# Altium footprint library ControlCircuit_PCB_Library_V1_0.PcbLib: 207 footprints (part 11 of 13)
Each footprint in its own frame and in the unit in brackets; x right, y up, seen from the top. Pads: shape width x height; smd on the part's side, far side on the other; paste and mask are expansions set on the pad; w line width, h text height; cw(c..) or ccw(c..) is an arc to the next point about the centre after c.
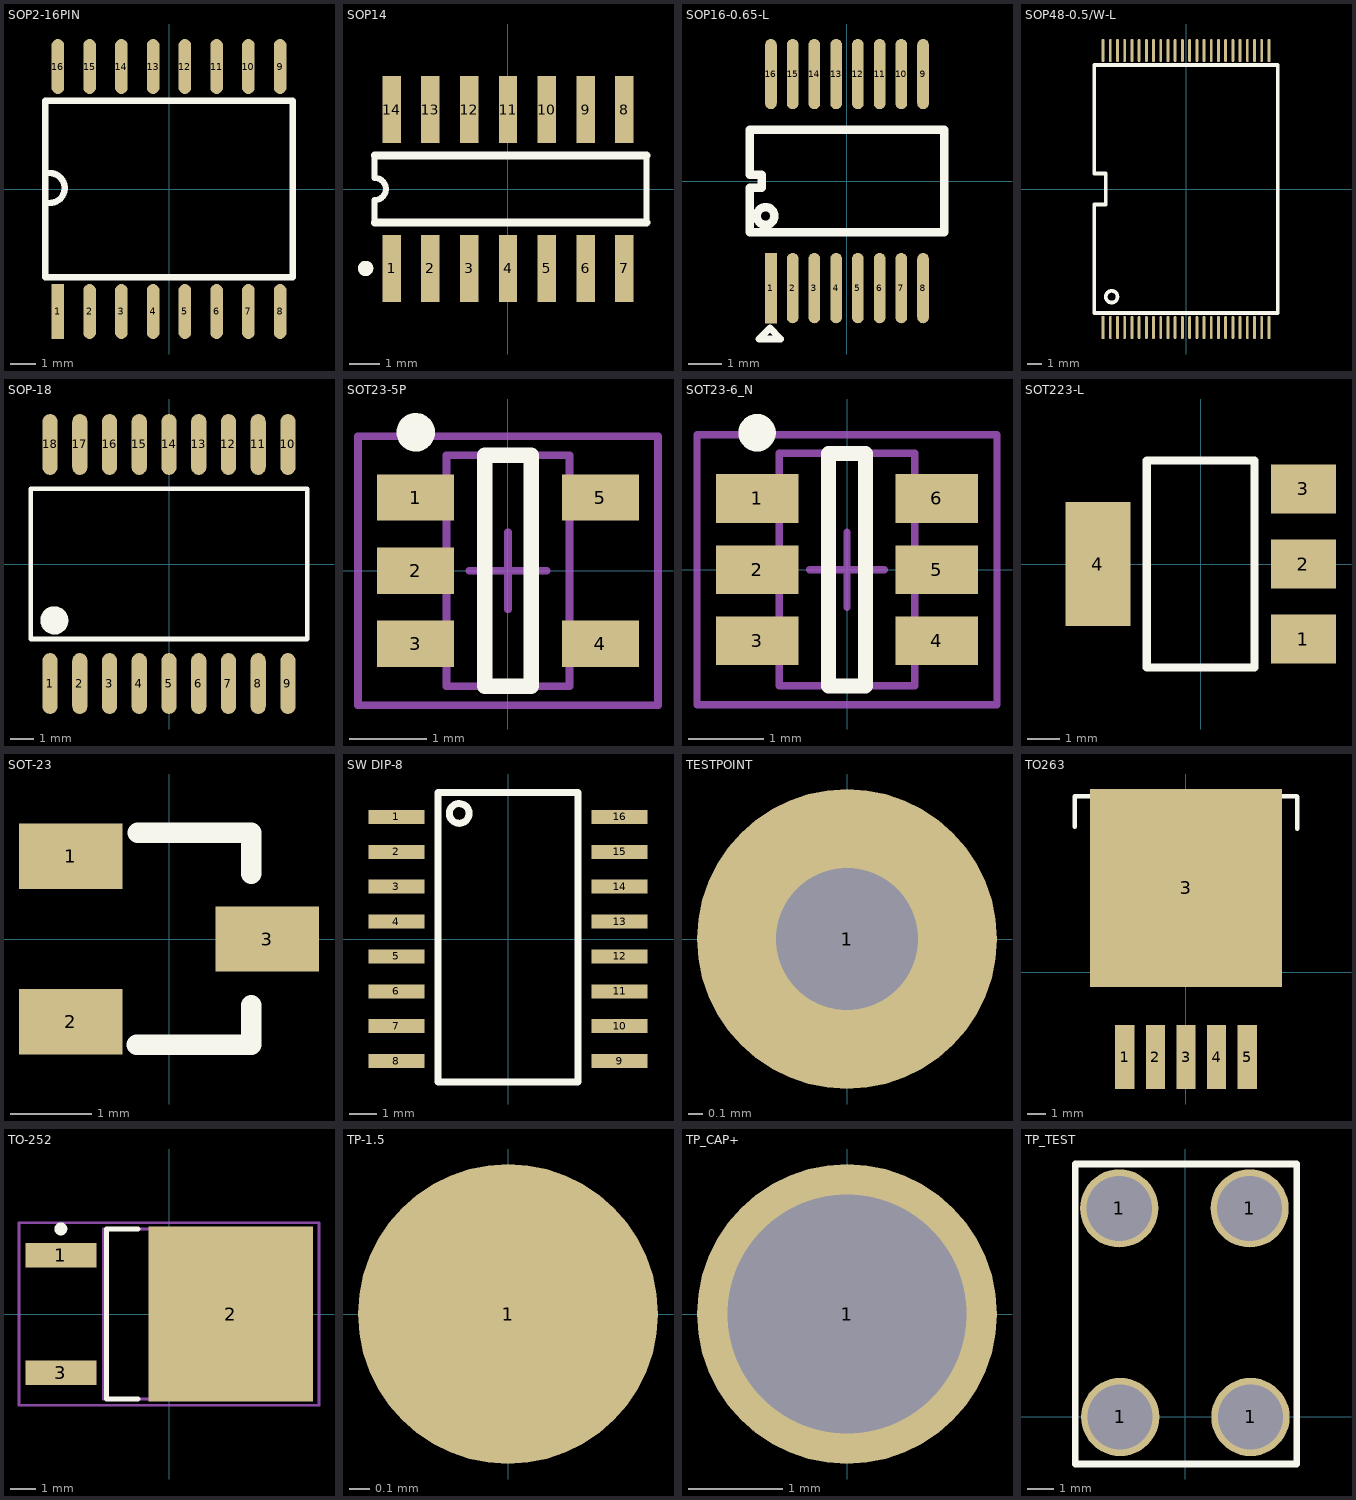
[diagram p10: the footprints below, top view; thin cyan lines are the x and y axes]

## SOP2-16PIN [mm]
height 2.5
pads (16):
  rect 0.508x2.2 smd: 1(-4.445,-4.9)
  oval 0.508x2.2 smd: 2(-3.175,-4.9) 3(-1.905,-4.9) 4(-0.635,-4.9) 5(0.635,-4.9) 6(1.905,-4.9) 7(3.175,-4.9) 8(4.445,-4.9) 9(4.445,4.9) 10(3.175,4.9) 11(1.905,4.9) 12(0.635,4.9) 13(-0.635,4.9) 14(-1.905,4.9) 15(-3.175,4.9) 16(-4.445,4.9)
Top Overlay:
  lines w0.254: -4.783,-0.562 ccw(c-4.773,0.037) -4.773,0.637 ; -4.953,-3.528 -4.953,3.533 4.953,3.533 4.953,-3.528 -4.953,-3.528

## SOP14 [mm]
pads (14):
  rect 0.6x2.2 smd: 1(-3.81,-2.6) 2(-2.54,-2.6) 3(-1.27,-2.6) 4(0,-2.6) 5(1.27,-2.6) 6(2.54,-2.6) 7(3.81,-2.6) 8(3.81,2.6) 9(2.54,2.6) 10(1.27,2.6) 11(0,2.6) 12(-1.27,2.6) 13(-2.54,2.6) 14(-3.81,2.6)
Top Overlay:
  circle w0.25: c-4.66,-2.6 r0.125
  lines w0.2: -4.365,-1.1 -4.365,-0.367 ccw(c-4.365,0) -4.365,0.367 -4.365,1.1 ; 4.535,-1.1 4.535,1.1
  lines w0.254: -4.365,1.1 4.535,1.1 ; 4.535,-1.1 -4.365,-1.1 ; -4.365,-1.1 -4.365,-1.1

## SOP16-0.65-L [mm]
pads (16):
  rect 0.35x2.1 smd: 1(-2.275,-3.2)
  oval 0.35x2.1 smd: 2(-1.625,-3.2) 3(-0.975,-3.2) 4(-0.325,-3.2) 5(0.325,-3.2) 6(0.975,-3.2) 7(1.625,-3.2) 8(2.275,-3.2) 9(2.275,3.2) 10(1.625,3.2) 11(0.975,3.2) 12(0.325,3.2) 13(-0.325,3.2) 14(-0.975,3.2) 15(-1.625,3.2) 16(-2.275,3.2)
Top Overlay:
  circle w0.254: c-2.435,-1.043 r0.265
  lines w0.2: -2.63,-4.72 -1.98,-4.72 -2.305,-4.395 -2.3,-4.395 -2.3,-4.39 -2.63,-4.72
  lines w0.254: -2.91,-1.53 2.91,-1.53 2.91,1.53 -2.91,1.53 -2.91,0.191 -2.546,0.191 -2.546,-0.191 -2.91,-0.191 -2.91,-1.53

## SOP48-0.5/W-L [mm]
pads (48):
  rect 0.2x1.6 smd: 1(-5.75,-9.6)
  oval 0.2x1.6 smd: 2(-5.25,-9.6) 3(-4.75,-9.6) 4(-4.25,-9.6) 5(-3.75,-9.6) 6(-3.25,-9.6) 7(-2.75,-9.6) 8(-2.25,-9.6) 9(-1.75,-9.6) 10(-1.25,-9.6) 11(-0.75,-9.6) 12(-0.25,-9.6) 13(0.25,-9.6) 14(0.75,-9.6) 15(1.25,-9.6) 16(1.75,-9.6) 17(2.25,-9.6) 18(2.75,-9.6) 19(3.25,-9.6) 20(3.75,-9.6) 21(4.25,-9.6) 22(4.75,-9.6) 23(5.25,-9.6) 24(5.75,-9.6) 25(5.75,9.6) 26(5.25,9.6) 27(4.75,9.6) 28(4.25,9.6) 29(3.75,9.6) 30(3.25,9.6) 31(2.75,9.6) 32(2.25,9.6) 33(1.75,9.6) 34(1.25,9.6) 35(0.75,9.6) 36(0.25,9.6) 37(-0.25,9.6) 38(-0.75,9.6) 39(-1.25,9.6) 40(-1.75,9.6) 41(-2.25,9.6) 42(-2.75,9.6) 43(-3.25,9.6) 44(-3.75,9.6) 45(-4.25,9.6) 46(-4.75,9.6) 47(-5.25,9.6) 48(-5.75,9.6)
Top Overlay:
  circle w0.254: c-5.156,-7.468 r0.407
  lines w0.254: -6.35,-8.6 -6.35,-1.075 -5.556,-1.075 -5.556,1.075 -6.35,1.075 -6.35,8.6 6.35,8.6 6.35,-8.6 -6.35,-8.6

## SOP-18 [mm]
pads (18):
  oval 0.65x2.6 smd: 1(-5.08,-5.108) 2(-3.81,-5.108) 3(-2.54,-5.108) 4(-1.27,-5.108) 5(0,-5.108) 6(1.27,-5.108) 7(2.54,-5.108) 8(3.81,-5.108) 9(5.08,-5.108) 10(5.08,5.108) 11(3.81,5.108) 12(2.54,5.108) 13(1.27,5.108) 14(0,5.108) 15(-1.27,5.108) 16(-2.54,5.108) 17(-3.81,5.108) 18(-5.08,5.108)
Top Overlay:
  circle w0.6: c-4.9,-2.408 r0.3
  lines w0.2: -5.9,-3.203 5.9,-3.203 5.9,3.216 -5.9,3.216 -5.9,-3.203

## SOT23-5P [mm] "SOT23, 5-Leads, Body 3.0x2.8mm (max), Pitch 0.95mm, IPC Medium Density"
height 1.1
pads (5):
  rect 1x0.6 smd: 1(-1.2,0.95) 2(-1.2,0) 3(-1.2,-0.95) 4(1.2,-0.95) 5(1.2,0.95)
Top Overlay:
  circle w0.25: c-1.2,1.8 r0.125
  lines w0.2: -0.3,-1.5 -0.3,1.5 0.3,1.5 0.3,-1.5 -0.3,-1.5
Mechanical 13:
  lines w0.1: -0.8,-1.5 0.8,-1.5 0.8,1.5 -0.8,1.5 -0.8,-1.5
Mechanical 15:
  lines w0.1: -0.5,0 0.5,0 ; 0,-0.5 0,0.5 ; -1.95,-1.75 1.95,-1.75 1.95,1.75 -1.95,1.75 -1.95,-1.75
3D body: height 1.1, standoff 0.05, extent -0.8,-1.5 0.8,1.5

## SOT23-6_N [mm] "SOT23, 6-Leads, Body 2.9x1.6mm, Pitch 0.95mm, Lead Span 2.7mm, IPC Medium Density"
height 1.45
pads (6):
  rect 1.1x0.65 smd: 1(-1.2,0.95) 2(-1.2,0) 3(-1.2,-0.95) 4(1.2,-0.95) 5(1.2,0) 6(1.2,0.95)
Top Overlay:
  circle w0.25: c-1.2,1.825 r0.125
  lines w0.2: -0.25,-1.55 0.25,-1.55 0.25,1.55 -0.25,1.55 -0.25,-1.55
Mechanical 13:
  lines w0.1: -0.9,-1.55 -0.9,1.55 0.9,1.55 0.9,-1.55 -0.9,-1.55
Mechanical 15:
  lines w0.1: -0.5,0 0.5,0 ; 0,-0.5 0,0.5 ; -2,-1.8 -2,1.8 2,1.8 2,-1.8 -2,-1.8
3D body: height 1.45, standoff 0, extent -0.9,-1.55 0.9,1.55

## SOT223-L [mm]
pads (4):
  rect 2x1.5 smd: 1(3.15,-2.3) 2(3.15,0) 3(3.15,2.3)
  rect 2x3.8 smd: 4(-3.15,0)
Top Overlay:
  lines w0.254: -1.651,-3.175 1.651,-3.175 1.651,3.175 -1.651,3.175 -1.651,-3.175

## SOT-23 [mm]
pads (3):
  rect 1.27x0.8 smd: 1(-1.205,1.015) 2(-1.205,-1.015) 3(1.205,0)
Top Overlay:
  lines w0.254: -0.392,-1.297 1.009,-1.297 1.009,-0.811 ; -0.383,1.303 1.009,1.303 1.009,0.803

## SW DIP-8 [mil]
pads (16):
  rect 80x20 smd: 1(-160,175) 2(-160,125) 3(-160,75) 4(-160,25) 5(-160,-25) 6(-160,-75) 7(-160,-125) 8(-160,-175) 9(160,-175) 10(160,-125) 11(160,-75) 12(160,-25) 13(160,25) 14(160,75) 15(160,125) 16(160,175)
Top Overlay:
  circle w10: c-70,180 r14.14
  lines w10: -100,-205 100,-205 100,210 -100,210 -100,-205

## TESTPOINT [mil]
height 314.96
pads (1):
  round 80 hole 37.99: 1(0,0)

## TO263 [mil]
pads (6):
  rect 42x140 smd: 1(-134,-185) 2(-67,-185) 3(0,-185) 4(67,-185) 5(134,-185)
  rect 420x433.07 smd: 3(0,185)
Top Overlay:
  lines w10: -243,319 -243,386 -184,386 ; 179,386 242,386 243,385 243,315

## TO-252 [mm] "D-PAK, 3-Pads, Body 6.0x6.6mm (max), IPC Medium Density"
height 2.38
pads (3):
  rect 2.75x0.95 smd: 1(-4.2,2.28) 3(-4.2,-2.28)
  rect 6.4x6.8 smd: 2(2.4,0)
Top Overlay:
  circle w0.25: c-4.2,3.305 r0.125
  lines w0.2: -1.2,-3.3 -2.425,-3.3 -2.425,3.3 -1.2,3.3
Mechanical 13:
  lines w0.1: -2.55,-3.3 3.45,-3.3 3.45,3.3 -2.55,3.3 -2.55,-3.3
Mechanical 15:
  lines w0.1: -0.5,0 0.5,0 ; 0,-0.5 0,0.5 ; -5.825,-3.55 5.825,-3.55 5.825,3.55 -5.825,3.55 -5.825,-3.55
3D body: height 2.38, standoff 0, extent -2.55,-3.3 3.45,3.3

## TP-1.5 [mm]
pads (1):
  round 1.5 smd: 1(0,0)

## TP_CAP+ [mm]
height 8
pads (1):
  round 3.2 hole 2.55: 1(0,0)

## TP_TEST [mm]
pads (4):
  round 3 hole 2.5: 1(-2.536,8.001) 1(-2.5,0) 1(2.464,8.001) 1(2.5,0)
Top Overlay:
  lines w0.254: -4.216,-1.803 4.267,-1.803 4.267,9.703 -4.216,9.703 -4.216,-1.803